# Altium footprint library components.PcbLib: 10 footprints
Each footprint in its own frame and in the unit in brackets; x right, y up, seen from the top. Pads: shape width x height; smd on the part's side, far side on the other; paste and mask are expansions set on the pad; w line width, h text height; cw(c..) or ccw(c..) is an arc to the next point about the centre after c.
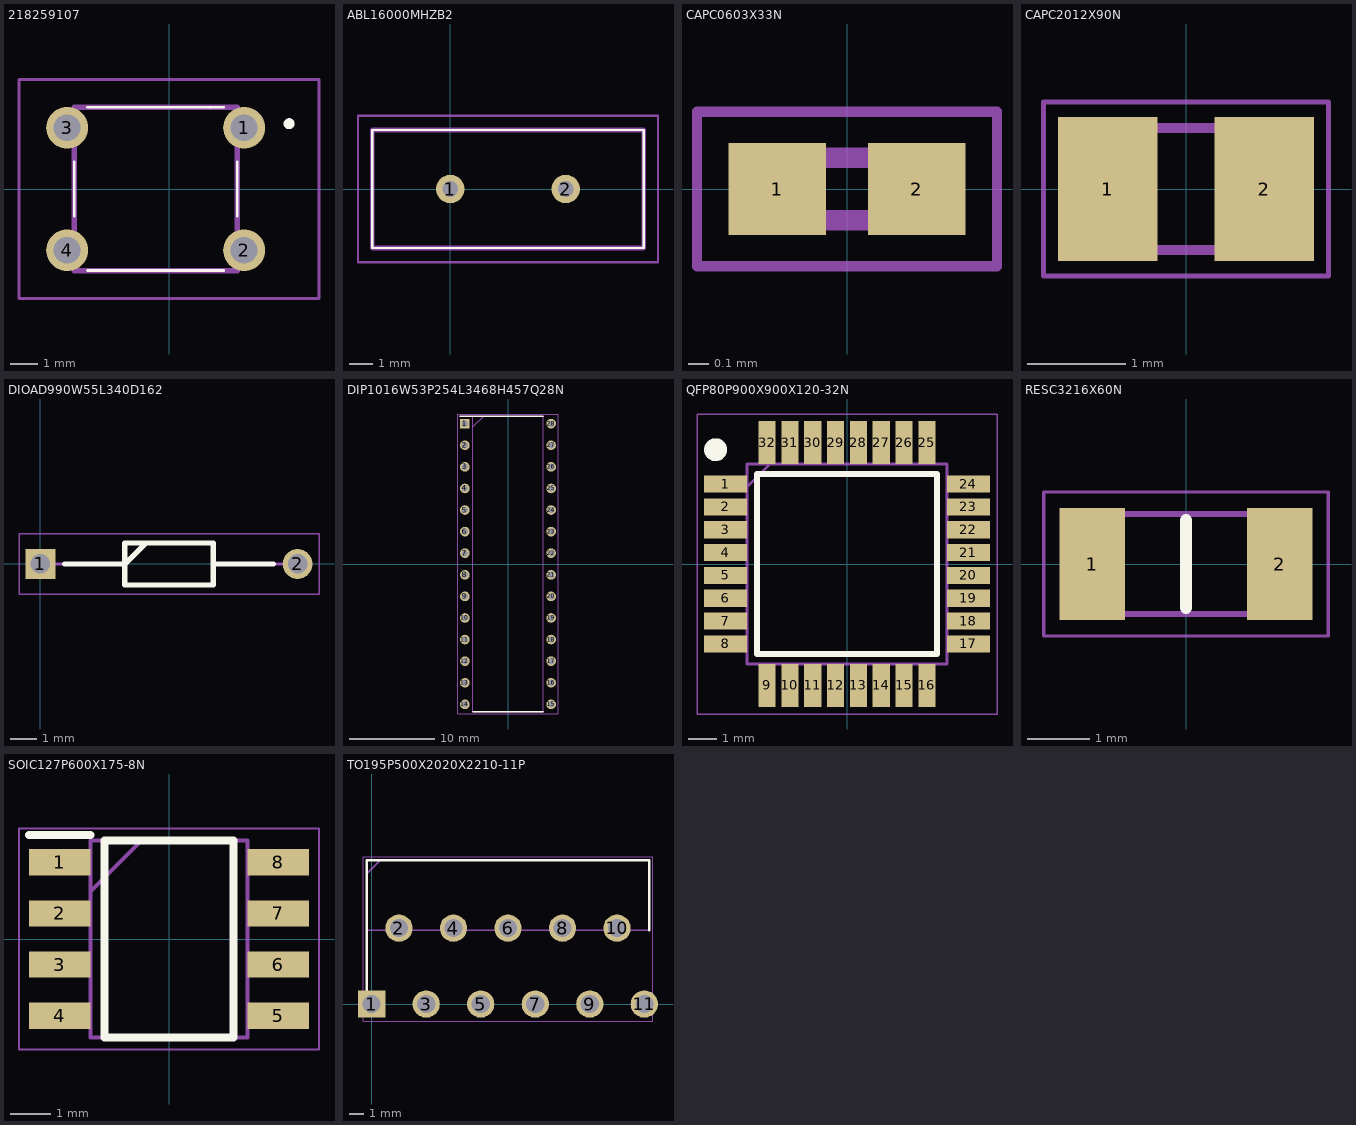
[diagram p0: the footprints below, top view; thin cyan lines are the x and y axes]

## 218259107 [mm]
pads (4):
  round 1.54 hole 0.99: 1(2.76,2.25) 2(2.76,-2.25) 3(-3.74,2.25) 4(-3.74,-2.25)
Top Overlay:
  lines w0.1: -3.485,-1 -3.485,1 ; -2.99,-2.995 2.01,-2.995 ; -2.99,3 1.51,2.995 2.01,3 ; 2.505,1 2.51,-1
  lines w0.2: 4.41,2.3 cw(c4.41,2.4) 4.41,2.5 cw(c4.41,2.4) 4.41,2.3
Mechanical 13:
  lines w0.2: -3.485,-2.995 2.505,-2.995 2.505,2.995 -3.485,2.995 -3.485,-2.995
Mechanical 15:
  lines w0.1: -5.51,-4.02 5.51,-4.02 ; -5.51,-4.02 -5.51,4.02 ; -5.51,-4.02 5.51,-4.02 ; -5.51,-4.02 -5.51,4.02 ; -5.51,4.02 5.51,4.02 ; -5.51,4.02 5.51,4.02 ; 5.51,-4.02 5.51,4.02 ; 5.51,-4.02 5.51,4.02
3D body "2-1825910-7.stp": height 0, standoff -16.51, extent -2.995,-3.9 2.995,3.9

## ABL16000MHZB2 [mm]
pads (2):
  round 1.205 hole 0.657: 1(0,0) 2(4.88,0)
Top Overlay:
  lines w0.1: -3.31,-2.5 -3.31,2.5 8.19,2.5 8.19,-2.5 -3.31,-2.5
Mechanical 13:
  lines w0.2: -3.31,-2.5 -3.31,2.5 8.19,2.5 8.19,-2.5 -3.31,-2.5
Mechanical 15:
  lines w0.1: -3.91,-3.1 -3.91,3.1 8.79,3.1 8.79,-3.1 -3.91,-3.1
3D body "ABL-16.000MHZ-B2.stp": height 3.6, standoff -5, extent -3.31,-2.5 8.19,2.5

## CAPC0603X33N [mm]
pads (2):
  rect 0.47x0.44 smd: 1(-0.335,0) 2(0.335,0)
Mechanical 13:
  lines w0.1: -0.3,-0.15 -0.3,0.15 0.3,0.15 0.3,-0.15 -0.3,-0.15
Mechanical 15:
  lines w0.05: -0.72,-0.37 -0.72,0.37 0.72,0.37 0.72,-0.37 -0.72,-0.37
3D body "02016D104KAT2A.stp": height 0.33, standoff 0, extent -0.3,-0.15 0.3,0.15

## CAPC2012X90N [mm]
pads (2):
  rect 1.02x1.47 smd: 1(-0.8,0) 2(0.8,0)
Mechanical 13:
  lines w0.1: -1,-0.625 -1,0.625 1,0.625 1,-0.625 -1,-0.625
Mechanical 15:
  lines w0.05: -1.46,-0.89 -1.46,0.89 1.46,0.89 1.46,-0.89 -1.46,-0.89
3D body "C0805C220F5GACTU.stp": height 0.9, standoff 0, extent -1,-0.625 1,0.625

## DIOAD990W55L340D162 [mm]
pads (2):
  rect 1.15x1.15 hole 0.75: 1(0,0)
  round 1.15 hole 0.75: 2(9.9,0)
Top Overlay:
  lines w0.2: 0.925,0 3.25,0 4.062,0.812 ; 6.65,0 8.975,0 ; 3.25,-0.812 3.25,0.812 6.65,0.812 6.65,-0.812 3.25,-0.812
Mechanical 13:
  lines w0.1: 0,0 3.25,0 4.062,0.812 ; 6.65,0 9.9,0 ; 3.25,-0.813 3.25,0.812 6.65,0.812 6.65,-0.813 3.25,-0.813
Mechanical 15:
  lines w0.05: -0.825,-1.163 -0.825,1.162 10.725,1.162 10.725,-1.163 -0.825,-1.163
3D body "1N4148B.stp": height 1.74, standoff -1.75, extent -0.273,-0.873 10.175,0.873

## DIP1016W53P254L3468H457Q28N [mm]
pads (28):
  rect 1.133x1.133 hole 0.733: 1(-5.08,16.51)
  round 1.133 hole 0.733: 2(-5.08,13.97) 3(-5.08,11.43) 4(-5.08,8.89) 5(-5.08,6.35) 6(-5.08,3.81) 7(-5.08,1.27) 8(-5.08,-1.27) 9(-5.08,-3.81) 10(-5.08,-6.35) 11(-5.08,-8.89) 12(-5.08,-11.43) 13(-5.08,-13.97) 14(-5.08,-16.51) 15(5.08,-16.51) 16(5.08,-13.97) 17(5.08,-11.43) 18(5.08,-8.89) 19(5.08,-6.35) 20(5.08,-3.81) 21(5.08,-1.27) 22(5.08,1.27) 23(5.08,3.81) 24(5.08,6.35) 25(5.08,8.89) 26(5.08,11.43) 27(5.08,13.97) 28(5.08,16.51)
Top Overlay:
  lines w0.2: -5.646,17.399 4.128,17.399 ; -4.128,-17.399 4.128,-17.399
Mechanical 13:
  lines w0.1: -4.128,16.129 -2.858,17.399 ; -4.128,-17.399 4.128,-17.399 4.128,17.399 -4.128,17.399 -4.128,-17.399
Mechanical 15:
  lines w0.05: -5.896,-17.649 5.896,-17.649 5.896,17.649 -5.896,17.649 -5.896,-17.649
3D body "ATMEGA328-PU.stp": height 4.57, standoff -3.5, extent -5.213,-17.338 5.213,17.338

## QFP80P900X900X120-32N [mm]
pads (32):
  rect 1.5x0.6 smd: 1(-4.25,2.8) 2(-4.25,2) 3(-4.25,1.2) 4(-4.25,0.4) 5(-4.25,-0.4) 6(-4.25,-1.2) 7(-4.25,-2) 8(-4.25,-2.8) 17(4.25,-2.8) 18(4.25,-2) 19(4.25,-1.2) 20(4.25,-0.4) 21(4.25,0.4) 22(4.25,1.2) 23(4.25,2) 24(4.25,2.8)
  rect 0.6x1.5 smd: 9(-2.8,-4.25) 10(-2,-4.25) 11(-1.2,-4.25) 12(-0.4,-4.25) 13(0.4,-4.25) 14(1.2,-4.25) 15(2,-4.25) 16(2.8,-4.25) 25(2.8,4.25) 26(2,4.25) 27(1.2,4.25) 28(0.4,4.25) 29(-0.4,4.25) 30(-1.2,4.25) 31(-2,4.25) 32(-2.8,4.25)
Top Overlay:
  circle w0.4: c-4.6,4 r0.2
  lines w0.2: -3.15,-3.15 -3.15,3.15 3.15,3.15 3.15,-3.15 -3.15,-3.15
Mechanical 13:
  lines w0.1: -3.5,2.7 -2.7,3.5 ; -3.5,-3.5 -3.5,3.5 3.5,3.5 3.5,-3.5 -3.5,-3.5
Mechanical 15:
  lines w0.05: -5.25,-5.25 -5.25,5.25 5.25,5.25 5.25,-5.25 -5.25,-5.25
3D body "ATMEGA328P-AU.stp": height 1.2, standoff 0, extent -4.5,-4.5 4.5,4.5

## RESC3216X60N [mm]
pads (2):
  rect 1.05x1.8 smd: 1(-1.5,0) 2(1.5,0)
Top Overlay:
  lines w0.2: 0,-0.7 0,0.7
Mechanical 13:
  lines w0.1: -1.575,-0.8 -1.575,0.8 1.575,0.8 1.575,-0.8 -1.575,-0.8
Mechanical 15:
  lines w0.05: -2.275,-1.15 -2.275,1.15 2.275,1.15 2.275,-1.15 -2.275,-1.15
3D body "CRCW120610K0FKEAC.stp": height 0.6, standoff 0, extent -1.575,-0.8 1.575,0.8

## SOIC127P600X175-8N [mm]
pads (8):
  rect 1.525x0.65 smd: 1(-2.712,1.905) 2(-2.712,0.635) 3(-2.712,-0.635) 4(-2.712,-1.905) 5(2.712,-1.905) 6(2.712,-0.635) 7(2.712,0.635) 8(2.712,1.905)
Top Overlay:
  lines w0.2: -3.475,2.58 -1.95,2.58 ; -1.6,-2.45 -1.6,2.45 1.6,2.45 1.6,-2.45 -1.6,-2.45
Mechanical 13:
  lines w0.1: -1.95,1.18 -0.68,2.45 ; -1.95,-2.45 -1.95,2.45 1.95,2.45 1.95,-2.45 -1.95,-2.45
Mechanical 15:
  lines w0.05: -3.725,-2.75 -3.725,2.75 3.725,2.75 3.725,-2.75 -3.725,-2.75
3D body "NE555DR.stp": height 1.75, standoff 0, extent -3,-2.45 3,2.45

## TO195P500X2020X2210-11P [mm]
pads (11):
  rect 1.95x1.95 hole 1.3: 1(0,0)
  round 1.95 hole 1.3: 2(1.95,5.43) 3(3.9,0) 4(5.85,5.43) 5(7.8,0) 6(9.75,5.43) 7(11.7,0) 8(13.65,5.43) 9(15.6,0) 10(17.55,5.43) 11(19.5,0)
Top Overlay:
  lines w0.2: -0.35,0 -0.35,10.28 19.85,10.28 19.85,5.28
Mechanical 13:
  lines w0.1: -0.35,9.305 0.625,10.28 ; -0.35,5.28 -0.35,10.28 19.85,10.28 19.85,5.28 -0.35,5.28
Mechanical 15:
  lines w0.05: -0.6,-1.225 -0.6,10.53 20.1,10.53 20.1,-1.225 -0.6,-1.225
3D body "TDA7265.stp": height 20.52, standoff -6.05, extent -0.457,-0.26 19.958,10.28